# EAGLE library part GS3-53 (library impellimax-drivers)
Please contact factory for your specific package and pinout needs. www.impellimax.com 603-886-9569
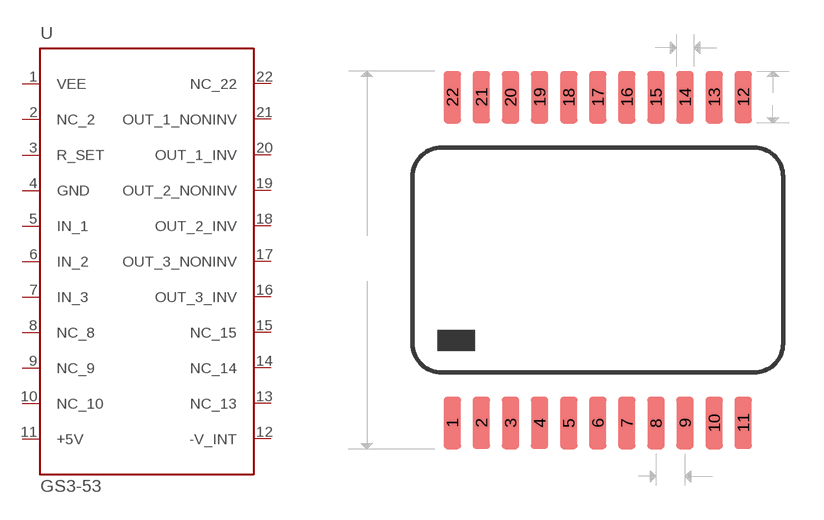
[diagram p26: symbol with the pads of 7403_C124; footprint 7403_C124]

Designator prefix U

## GS3-53  [7403_C124]
1  VEE  in
2  NC_2  in
3  R_SET  in
4  GND  in
5  IN_1  pas
6  IN_2  in
7  IN_3  in
8  NC_8  in
9  NC_9  in
10  NC_10  in
11  +5V  pas
12  -V_INT  in
13  NC_13  in
14  NC_14  in
15  NC_15  in
16  OUT_3_INV  in
17  OUT_3_NONINV  in
18  OUT_2_INV  in
19  OUT_2_NONINV  in
20  OUT_1_INV  in
21  OUT_1_NONINV  in
22  NC_22  in

## Footprint 7403_C124 (pad centres in mm)
package .395 by .645 max actual lead to lead length .600 +/- .020 foot length .040 nom, land pattern .090 lead width .016, land pattern width .030
smd 0.762 x 2.286: 1 -6.351,-7.114; 2 -5.081,-7.11; 3 -3.811,-7.114; 4 -2.541,-7.11; 5 -1.269,-7.112; 6 0.001,-7.115; 7 1.267,-7.112; 8 2.538,-7.115; 9 3.809,-7.112; 10 5.079,-7.114; 11 6.349,-7.11; 12 6.349,7.114; 13 5.079,7.11; 14 3.808,7.11; 15 2.538,7.11; 16 1.268,7.11; 17 0.001,7.11; 18 -1.272,7.11; 19 -2.542,7.11; 20 -3.812,7.11; 21 -5.081,7.114; 22 -6.351,7.11